# Altium schematic symbol library 4WayDIP.SchLib: 1 symbol
Pins are listed as number, name and electrical type; pins without a type are passive.

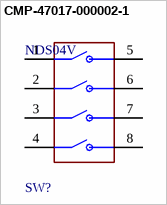
[diagram p0: symbol CMP-47017-000002-1]

## CMP-47017-000002-1
designator SW?, comment NDS04V
4 Way Through Hole DIP Switch SPST, Raised Actuator; Contact Current Rating: 25mA; Number of Positions: 4; Voltage Rating: 24V; Max Operating Temperature: 85°C; Contact Material: Bronze; Mount: Through Hole; Min Operating Temperature: -40°C; RoHS Compliant: Yes
footprint FP-NDS04V-MFG
pins: 1, 2, 3, 4, 5, 6, 7, 8